# Altium schematic symbol library Connectors.SchLib: 29 symbols
Pins are listed as number, name and electrical type; pins without a type are passive.

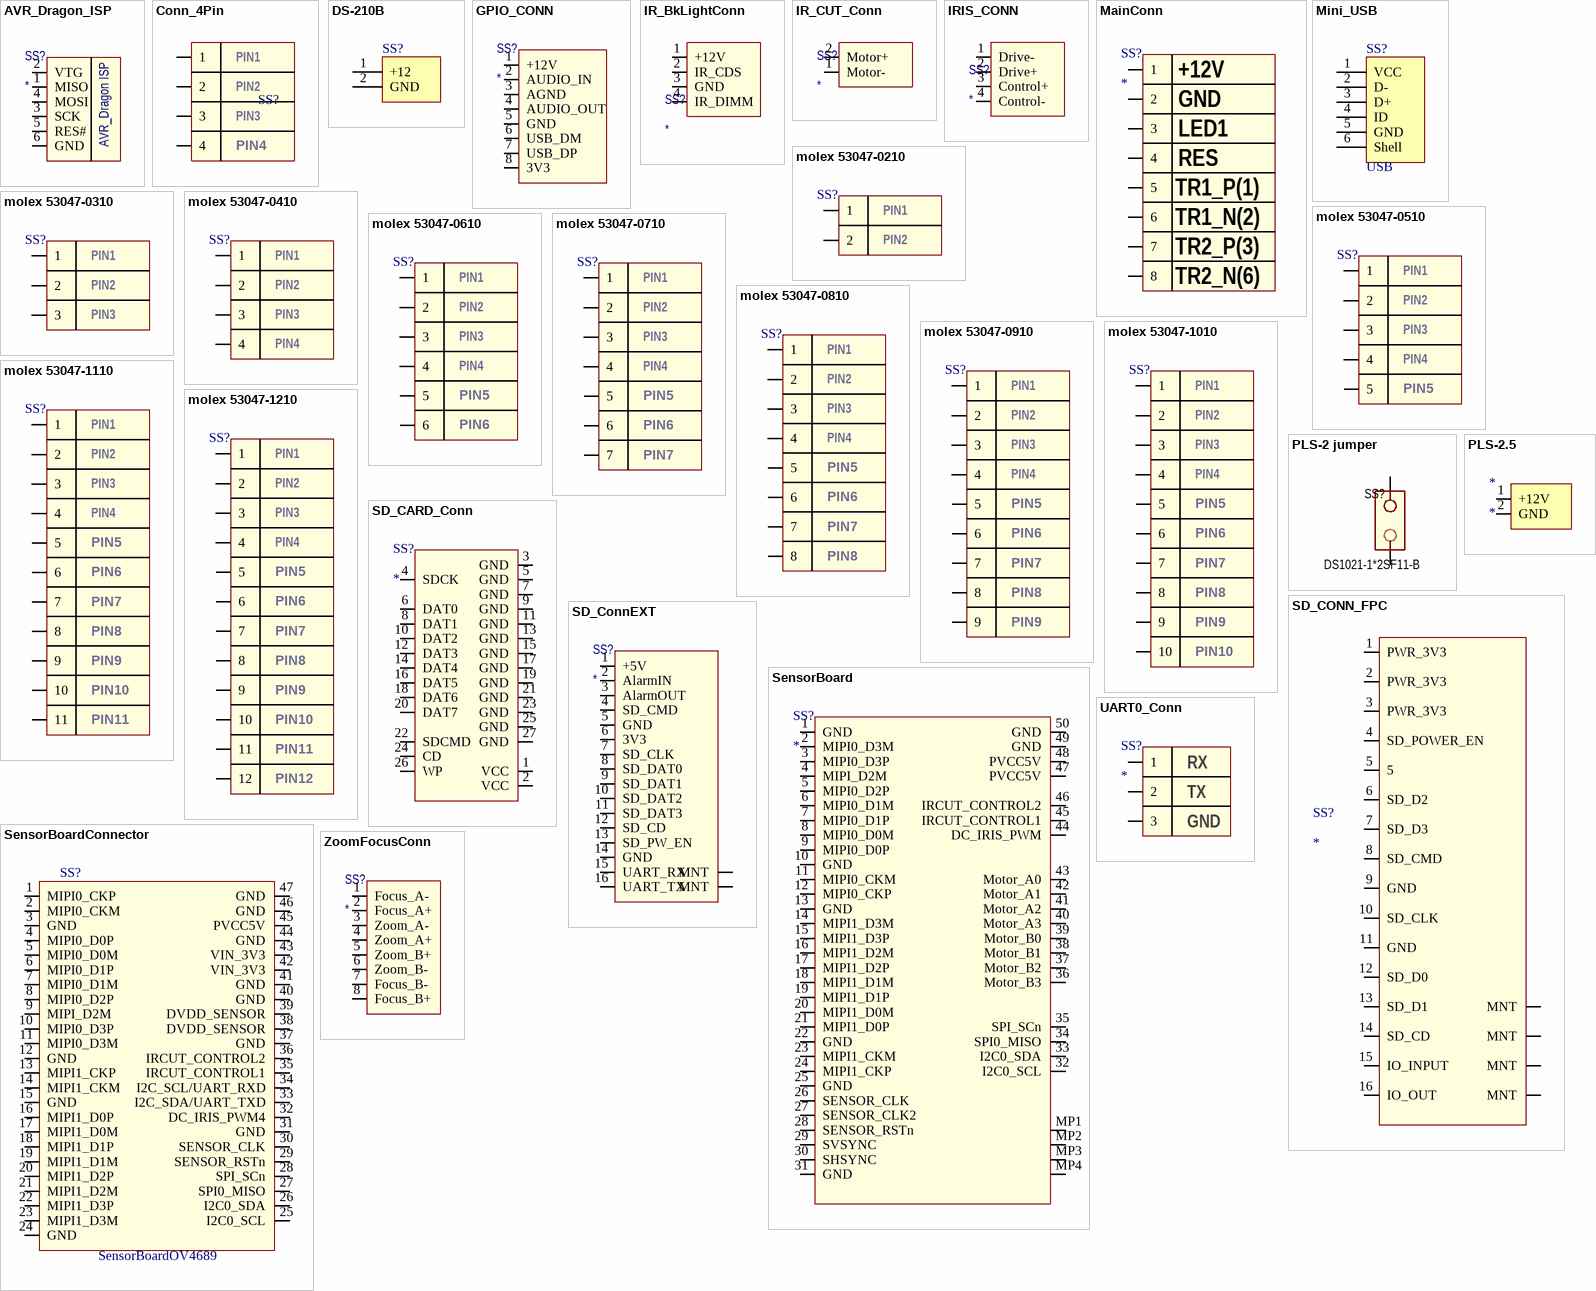
[diagram p0: symbols AVR_Dragon_ISP to ZoomFocusConn]

## AVR_Dragon_ISP
designator SS?
Model: DS1021-2x3S; Manufacturer: *; HelpURL: *; Package: *; Value: *
footprint PLD6 (Вилка PLD-6 2,54мм 2х3)
pins: 1 MISO, 2 VTG, 3 SCK, 4 MOSI, 5 RES#, 6 GND
text: AVR_Dragon ISP

## Conn_4Pin
designator SS?  PIN 4: PIN4  PIN 3: PIN3  PIN 2: PIN2  PIN 1: PIN1
Model: *; Manufacturer: *; HelpURL: *; Package: *; Value: *
footprint Molex 53047-0410 (Picoblade 4pin vetical)
pins: 1, 2, 3, 4

## DS-210B
designator SS?
footprint DS-210B
pins: 1 +12 (power), 2 GND (power)

## GPIO_CONN
designator SS?
pins: 1 +12V, 2 AUDIO_IN, 3 AGND, 4 AUDIO_OUT, 5 GND, 6 USB_DM, 7 USB_DP, 8 3V3

## IR_BkLightConn
designator SS?
footprint Molex 53047-0410 (Picoblade 4pin vetical)
pins: 1 +12V, 2 IR_CDS, 3 GND, 4 IR_DIMM

## IR_CUT_Conn
designator SS?
footprint Molex 53047-0210 (Picoblade 2pin vetical)
pins: 1 Motor-, 2 Motor+

## IRIS_CONN
designator SS?
footprint Molex 53047-0410 (Picoblade 4pin vetical)
pins: 1 Drive-, 2 Drive+, 3 Control+, 4 Control-

## MainConn
designator SS?
ETH_Conn and main power
footprint Molex 53047-0810 (Picoblade 8pin vetical)
pins: 1, 2, 3, 4, 5, 6, 7, 8
text: +12V; GND; LED1; RES; TR1_P(1); TR1_N(2); TR2_P(3); TR2_N(6)

## Mini_USB
designator SS?, comment USB
footprint micro_usb_10118193
pins: 1 VCC, 2 D-, 3 D+, 4 ID, 5 GND, 6 Shell

## molex 53047-0210
designator SS?  PIN 2: PIN2  PIN 1: PIN1
Model: *; Manufacturer: *; HelpURL: *; Package: *; Value: *
footprint Molex 53047-0210 (Picoblade 2pin vetical)
pins: 1, 2

## molex 53047-0310
designator SS?  PIN 3: PIN3  PIN 2: PIN2  PIN 1: PIN1
Model: *; Manufacturer: *; HelpURL: *; Package: *; Value: *
footprint molex 53047-0310 (Picoblade 3pin vetical)
pins: 1, 2, 3

## molex 53047-0410
designator SS?  PIN 4: PIN4  PIN 3: PIN3  PIN 2: PIN2  PIN 1: PIN1
Model: *; Manufacturer: *; HelpURL: *; Package: *; Value: *
footprint molex 53047-0410 (Picoblade 4pin vetical)
pins: 1, 2, 3, 4

## molex 53047-0510
designator SS?  PIN 5: PIN5  PIN 4: PIN4  PIN 3: PIN3  PIN 2: PIN2  PIN 1: PIN1
Model: *; Manufacturer: *; HelpURL: *; Package: *; Value: *
footprint Molex 53047-0510 (Picoblade 5pin vetical)
pins: 1, 2, 3, 4, 5

## molex 53047-0610
designator SS?  PIN 6: PIN6  PIN 5: PIN5  PIN 4: PIN4  PIN 3: PIN3  PIN 2: PIN2  PIN 1: PIN1
Model: *; Manufacturer: *; HelpURL: *; Package: *; Value: *
footprint Molex 53047-0610 (Picoblade 6pin vetical)
pins: 1, 2, 3, 4, 5, 6

## molex 53047-0710
designator SS?  PIN 7: PIN7  PIN 6: PIN6  PIN 5: PIN5  PIN 4: PIN4  PIN 3: PIN3  PIN 2: PIN2  PIN 1: PIN1
Model: *; Manufacturer: *; HelpURL: *; Package: *; Value: *
footprint Molex 53047-0710 (Picoblade 7pin vetical)
pins: 1, 2, 3, 4, 5, 6, 7

## molex 53047-0810
designator SS?  PIN 8: PIN8  PIN 7: PIN7  PIN 6: PIN6  PIN 5: PIN5  PIN 4: PIN4  PIN 3: PIN3  PIN 2: PIN2  PIN 1: PIN1
Model: *; Manufacturer: *; HelpURL: *; Package: *; Value: *
footprint molex 53047-0810 (Picoblade 8pin vetical)
pins: 1, 2, 3, 4, 5, 6, 7, 8

## molex 53047-0910
designator SS?  PIN 9: PIN9  PIN 8: PIN8  PIN 7: PIN7  PIN 6: PIN6  PIN 5: PIN5  PIN 4: PIN4  PIN 3: PIN3  PIN 2: PIN2  PIN 1: PIN1
Model: *; Manufacturer: *; HelpURL: *; Package: *; Value: *
footprint Molex 53047-0910 (Picoblade 9pin vetical)
pins: 1, 2, 3, 4, 5, 6, 7, 8, 9

## molex 53047-1010
designator SS?  PIN 10: PIN10  PIN 9: PIN9  PIN 8: PIN8  PIN 7: PIN7  PIN 6: PIN6  PIN 5: PIN5  PIN 4: PIN4  PIN 3: PIN3  PIN 2: PIN2  PIN 1: PIN1
Model: *; Manufacturer: *; HelpURL: *; Package: *; Value: *
footprint Molex 53047-1010 (Picoblade 10pin vetical)
pins: 1, 2, 3, 4, 5, 6, 7, 8, 9, 10

## molex 53047-1110
designator SS?  PIN 10: PIN10  PIN 9: PIN9  PIN 8: PIN8  PIN 7: PIN7  PIN 6: PIN6  PIN 5: PIN5  PIN 4: PIN4  PIN 3: PIN3  PIN 2: PIN2  PIN 1: PIN1
Model: *; Manufacturer: *; HelpURL: *; Package: *; Value: *; PIN11: PIN11
footprint Molex 53047-1110 (Picoblade 11pin vetical)
pins: 1, 2, 3, 4, 5, 6, 7, 8, 9, 10, 11

## molex 53047-1210
designator SS?  PIN 12: PIN12  PIN 10: PIN10  PIN 9: PIN9  PIN 8: PIN8  PIN 7: PIN7  PIN 6: PIN6  PIN 5: PIN5  PIN 4: PIN4  PIN 3: PIN3  PIN 2: PIN2  PIN 1: PIN1
Model: *; Manufacturer: *; HelpURL: *; Package: *; Value: *; PIN11: PIN11
footprint Molex 53047-1210 (Picoblade 12pin vetical)
pins: 1, 2, 3, 4, 5, 6, 7, 8, 9, 10, 11, 12

## PLS-2 jumper
designator SS?, comment DS1021-1*2SF11-B
jumper; Manufacturer: Connfly; Model: DS1021-1*2SF11-B; HelpURL: https://static.chipdip.ru/lib/227/DOC000227157.pdf
footprint DS1021-1*2S (PLS-2)
pins: 1, 2

## PLS-2.5
designator *
pins: 1 +12V (power), 2 GND (power)

## SD_CARD_Conn
designator SS?
Conn for sd card
footprint Molex_FPC_30_05 (52559-3052)
pins: 1 VCC, 2 VCC, 3 GND, 4 SDCK, 5 GND, 6 DAT0, 7 GND, 8 DAT1, 9 GND, 10 DAT2, 11 GND, 12 DAT3, 13 GND, 14 DAT4, 15 GND, 16 DAT5, 17 GND, 18 DAT6, 19 GND, 20 DAT7, 21 GND, 22 SDCMD, 23 GND, 24 CD, 25 GND, 26 WP, 27 GND

## SD_CONN_FPC
designator SS?
Conn SD-card board; Model: *; Manufacturer: *; HelpURL: *; Package: *; Value: *
footprint Molex_FPC_16_05 (Molex 525591653)
pins: 1 PWR_3V3, 2 PWR_3V3, 3 PWR_3V3, 4 SD_POWER_EN, 5, 6 SD_D2, 7 SD_D3, 8 SD_CMD, 9 GND, 10 SD_CLK, 11 GND, 12 SD_D0, 13 SD_D1, 14 SD_CD, 15 IO_INPUT, 16 IO_OUT, MP1 MNT, MP2 MNT, MP3 MNT, MP4 MNT

## SD_ConnEXT
designator SS?
pins: 1 +5V, 2 AlarmIN, 3 AlarmOUT, 4 SD_CMD, 5 GND, 6 3V3, 7 SD_CLK, 8 SD_DAT0, 9 SD_DAT1, 10 SD_DAT2, 11 SD_DAT3, 12 SD_CD, 13 SD_PW_EN, 14 GND, 15 UART_RX, 16 UART_TX, 17 MNT, 18 MNT

## SensorBoard
designator SS?
SensorBoard Сonnector; Model: *; Manufacturer: *; HelpURL: *; Package: *; Value: *
footprint FFC_50_WURTH_687350124422 (ZIF Connectors, Vertical, Type A, pitch 0.5mm, 50p)
pins: 1 GND, 2 MIPI0_D3M, 3 MIPI0_D3P, 4 MIPI_D2M, 5 MIPI0_D2P, 6 MIPI0_D1M, 7 MIPI0_D1P, 8 MIPI0_D0M, 9 MIPI0_D0P, 10 GND, 11 MIPI0_CKM, 12 MIPI0_CKP, 13 GND, 14 MIPI1_D3M, 15 MIPI1_D3P, 16 MIPI1_D2M, 17 MIPI1_D2P, 18 MIPI1_D1M, 19 MIPI1_D1P, 20 MIPI1_D0M, 21 MIPI1_D0P, 22 GND, 23 MIPI1_CKM, 24 MIPI1_CKP, 25 GND, 26 SENSOR_CLK, 27 SENSOR_CLK2, 28 SENSOR_RSTn, 29 SVSYNC, 30 SHSYNC, 31 GND, 32 I2C0_SCL, 33 I2C0_SDA, 34 SPI0_MISO, 35 SPI_SCn, 36 Motor_B3, 37 Motor_B2, 38 Motor_B1, 39 Motor_B0, 40 Motor_A3, 41 Motor_A2, 42 Motor_A1, 43 Motor_A0, 44 DC_IRIS_PWM, 45 IRCUT_CONTROL1, 46 IRCUT_CONTROL2, 47 PVCC5V, 48 PVCC5V, 49 GND, 50 GND, MP1 MOUNT, MP2 MOUNT, MP3 MOUNT, MP4 MOUNT

## SensorBoardConnector
designator SS?, comment SensorBoardOV4689
OV4689 SensorBoard
footprint Molex_FPC_45_05
pins: 1 MIPI0_CKP, 2 MIPI0_CKM, 3 GND, 4 MIPI0_D0P, 5 MIPI0_D0M, 6 MIPI0_D1P, 7 MIPI0_D1M, 8 MIPI0_D2P, 9 MIPI_D2M, 10 MIPI0_D3P, 11 MIPI0_D3M, 12 GND, 13 MIPI1_CKP, 14 MIPI1_CKM, 15 GND, 16 MIPI1_D0P, 17 MIPI1_D0M, 18 MIPI1_D1P, 19 MIPI1_D1M, 20 MIPI1_D2P, 21 MIPI1_D2M, 22 MIPI1_D3P, 23 MIPI1_D3M, 24 GND, 25 I2C0_SCL, 26 I2C0_SDA, 27 SPI0_MISO, 28 SPI_SCn, 29 SENSOR_RSTn, 30 SENSOR_CLK, 31 GND, 32 DC_IRIS_PWM4, 33 I2C_SDA/UART_TXD, 34 I2C_SCL/UART_RXD, 35 IRCUT_CONTROL1, 36 IRCUT_CONTROL2, 37 GND, 38 DVDD_SENSOR, 39 DVDD_SENSOR, 40 GND, 41 GND, 42 VIN_3V3, 43 VIN_3V3, 44 GND, 45 PVCC5V, 46 GND, 47 GND

## UART0_Conn
designator SS?
footprint Molex 53047-0310 (Picoblade 3pin vetical)
pins: 1, 2, 3
text: RX; TX; GND

## ZoomFocusConn
designator SS?
footprint Molex 53047-0810 (Picoblade 8pin vetical)
pins: 1 Focus_A-, 2 Focus_A+, 3 Zoom_A-, 4 Zoom_A+, 5 Zoom_B+, 6 Zoom_B-, 7 Focus_B-, 8 Focus_B+